# EAGLE library part IV-18_LAYING (library Russian-VFD-tubes)
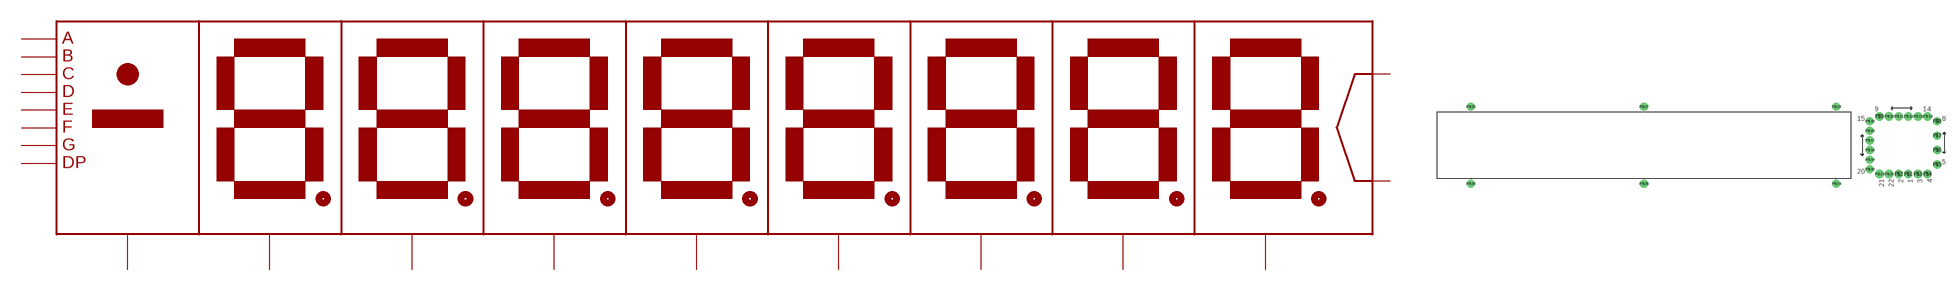
[diagram p2: symbol with the pads of IV-18_LYING; footprint IV-18_LYING]

Designator prefix -

## IV-18_LAYING  [IV-18_LYING]
P$1  P$19
P$2  P$8
P$3  P$4
P$4  P$3
P$5  P$5
P$9  P$7
P$10  P$2
P$11  P$6
P$12  P$1
P$13  P$18
P$14  P$9
P$15  P$17
P$16  P$15
P$17  P$13
P$18  P$10
P$19  P$11
P$20  P$12
P$21  P$14
P$22  P$16

## Footprint IV-18_LYING (pad centres in mm)
drill 1 pad 2.184: P$1 15.24,-7.62; P$2 12.7,-7.62; P$3 17.78,-7.62; P$4 20.32,-7.62; P$5 22.86,-5.08; P$6 22.86,-1.27; P$7 22.86,2.54; P$8 22.86,6.35; P$9 7.62,7.62; P$10 10.16,7.62; P$11 12.7,7.62; P$12 15.24,7.62; P$13 17.78,7.62; P$14 20.32,7.62; P$15 5.08,6.35; P$16 5.08,3.81; P$17 5.08,1.27; P$18 5.08,-1.27; P$19 5.08,-3.81; P$20 5.08,-6.35; P$21 7.62,-7.62; P$22 10.16,-7.62
drill 1.2 pad 2.184: P$23 -3.81,10.16; P$24 -3.81,-10.16; P$25 -100.33,10.16; P$26 -100.33,-10.16; P$27 -54.61,10.16; P$28 -54.61,-10.16